# Altium footprint library shared_PcbLib.PcbLib: 11 footprints
Each footprint in its own frame and in the unit in brackets; x right, y up, seen from the top. Pads: shape width x height; smd on the part's side, far side on the other; paste and mask are expansions set on the pad; w line width, h text height; cw(c..) or ccw(c..) is an arc to the next point about the centre after c.
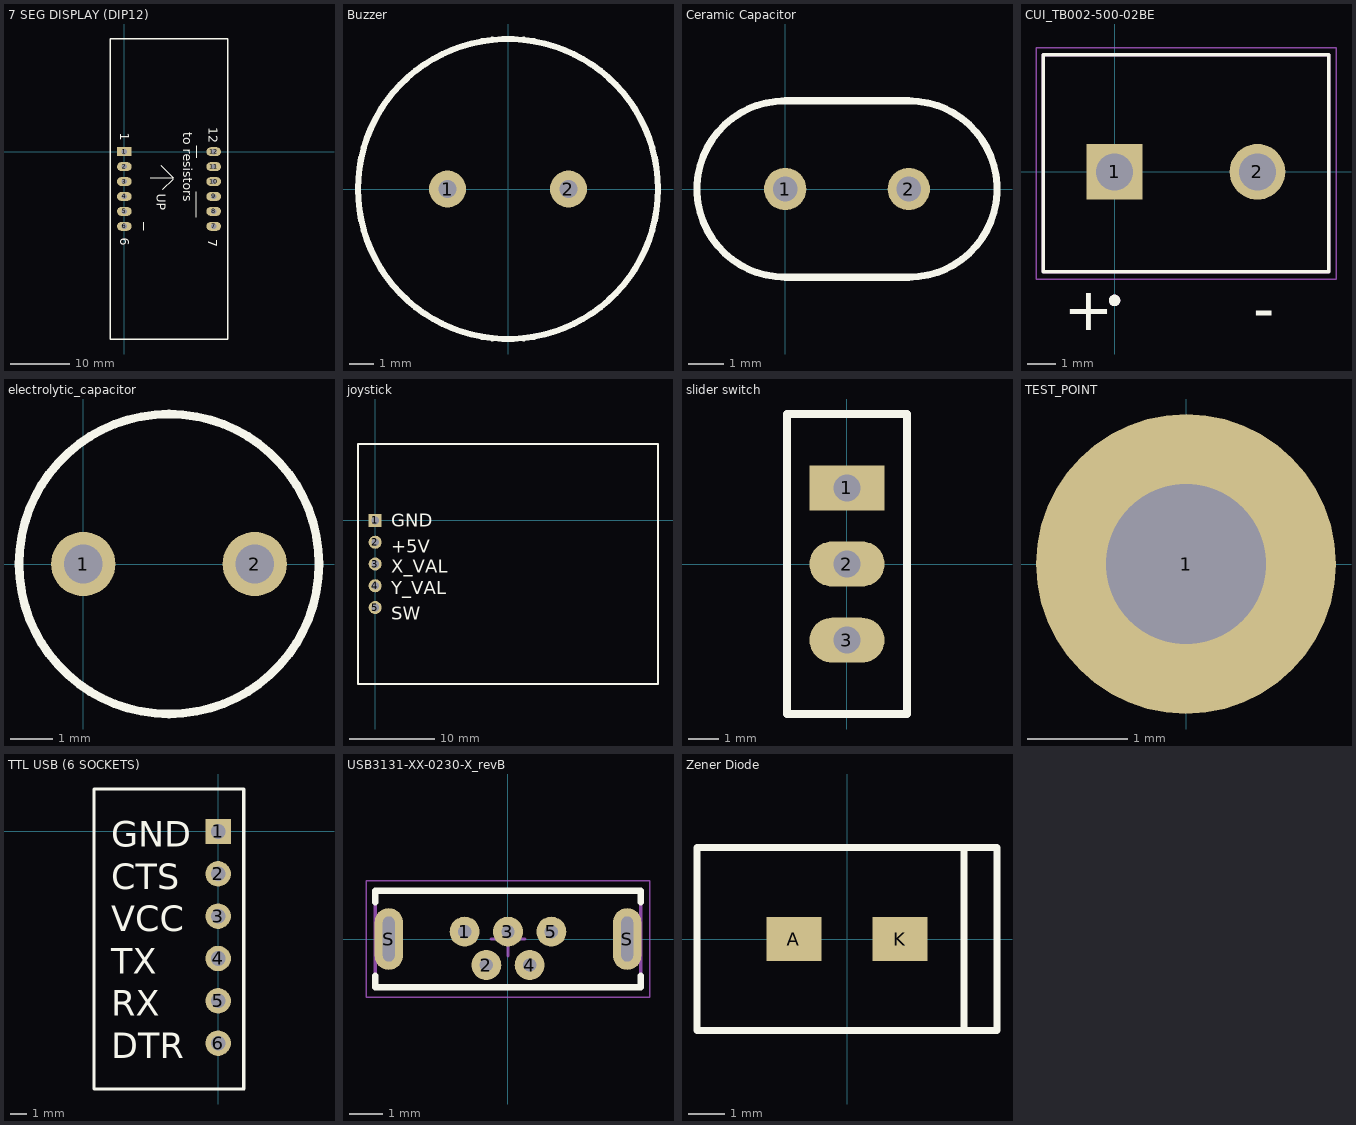
[diagram p0: the footprints below, top view; thin cyan lines are the x and y axes]

## 7 SEG DISPLAY (DIP12) [mm]
pads (12):
  rect 2.5x1.5 hole 0.9: 1(0,0)
  oval 2.5x1.5 hole 0.9: 2(0,-2.54) 3(0,-5.08) 4(0,-7.62) 5(0,-10.16) 6(0,-12.7) 7(15.2,-12.7) 8(15.2,-10.16) 9(15.2,-7.62) 10(15.2,-5.08) 11(15.2,-2.54) 12(15.2,0)
Top Overlay:
  lines w0.2: 3.325,-13.375 3.325,-12 ; 4.375,-4.475 8.3,-4.45 ; 6.175,-2.325 8.3,-4.45 ; 6.525,-6.425 8.3,-4.65 8.3,-4.45 ; 12.225,-11.175 12.225,-6.85 ; 12.35,-1.05 12.35,1
  lines w0.254: -2.4,-31.85 17.6,-31.85 17.6,19.15 -2.4,19.15 -2.4,-31.85
  text "UP" at 5.554,-7.179 h1.52
  text "to resistors" at 10.004,3.271 h1.52
  text "1" at -0.671,3.221 h1.52
  text "12" at 14.379,4.171 h1.52
  text "6" at -0.671,-14.629 h1.52
  text "7" at 14.254,-14.904 h1.52

## Buzzer [mil]
pads (2):
  round 60 hole 30: 1(-98.43,0) 2(98.43,0)
Top Overlay:
  circle w10: c0,0 r244.09

## Ceramic Capacitor [mm]
pads (2):
  round 1.2 hole 0.7: 1(0,0) 2(3.5,0)
Top Overlay:
  lines w0.2: 0,-2.5 cw(c0,0) 0,2.5 3.5,2.5 cw(c3.5,0) 3.5,-2.5 0,-2.5

## CUI_TB002-500-02BE [mm]
pads (2):
  rect 1.95x1.95 / inner round 1.95 / far side rect 1.95x1.95 hole 1.3: 1(0,0)
  round 1.95 hole 1.3: 2(5,0)
Top Overlay:
  circle w0.2: c0,-4.5 r0.1
  lines w0.127: -2.5,-3.5 -2.5,4.1 7.5,4.1 7.5,-3.5 -2.5,-3.5
  text "-" at 4.854,-5.533 h1.52
  text "+" at -1.771,-5.55 h1.52
Mechanical 13:
  circle w0.2: c0,-4.5 r0.1
  lines w0.127: -2.5,-3.5 -2.5,4.1 7.5,4.1 7.5,-3.5 -2.5,-3.5
Mechanical 15:
  lines w0.05: -2.75,-3.75 7.75,-3.75 7.75,4.35 -2.75,4.35 -2.75,-3.75

## electrolytic_capacitor [mm]
pads (2):
  round 1.5 hole 0.9: 1(0,0) 2(4,0)
Top Overlay:
  circle w0.2: c2,0 r3.5

## joystick [mil]
pads (5):
  rect 60x60 hole 35.43: 1(0,0)
  round 60 hole 35.43: 2(0,-100) 3(0,-200) 4(0,-300) 5(0,-400)
Top Overlay:
  lines w10: -78.74,-751.18 -78.74,351.18 1299.21,351.18 1299.21,-751.18 -78.74,-751.18
  text "SW" at 73.98,-456.54 h60
  text "Y_VAL" at 73.98,-338.27 h60
  text "X_VAL" at 73.98,-240.83 h60
  text "+5V" at 73.98,-147.48 h60
  text "GND" at 73.98,-29.37 h60

## slider switch [mm]
pads (3):
  rect 2.5x1.5 hole 0.9: 1(0,2.54)
  oval 2.5x1.5 hole 0.9: 2(0,0) 3(0,-2.54)
Top Overlay:
  lines w0.254: -2,-5 2,-5 2,5 -2,5 -2,-5

## TEST_POINT [mm]
pads (1):
  round 3 hole 1.6: 1(0,0)

## TTL USB (6 SOCKETS) [mil]
pads (6):
  rect 60x60 hole 35: 1(0,0)
  round 60 hole 35: 2(0,-100) 3(0,-200) 4(0,-300) 5(0,-400) 6(0,-500)
Top Overlay:
  lines w7.87: 60.04,100.39 60.04,-562.01 60.04,-608.27 ; 61.02,100.39 -293.31,100.39 -293.31,-608.27 53.15,-608.27 60.04,-608.27 ; 60.04,-608.27 60.04,-608.27
  text "GND" at -252.8,-36.26 h60
  text "CTS" at -252.8,-136.06 h60
  text "VCC" at -252.8,-235.87 h60
  text "TX" at -252.8,-335.67 h60
  text "RX" at -252.8,-435.47 h60
  text "DTR" at -252.8,-535.28 h60

## USB3131-XX-0230-X_revB [mm] "Micro USB Receptacle, Type B, Through-Hole, Vertical, with 2.3mm Shell Stakes"
height 5.6
pads (7):
  round 0.9 hole 0.4: 1(-1.3,0.22) 2(-0.65,-0.78) 3(0,0.22) 4(0.65,-0.78) 5(1.3,0.22)
  oval 0.85x1.85 hole 0.35 slot 1.35 at 90 deg: S(-3.575,0) S(3.575,0)
Top Overlay:
  lines w0.2: -3.98,-1.1 -3.98,-1.45 3.98,-1.45 3.98,-1.1 ; -3.98,1.1 -3.98,1.45 3.98,1.45 3.98,1.1
Mechanical 13:
  lines w0.1: -3.98,-1.45 -3.98,1.45 3.98,1.45 3.98,-1.45 -3.98,-1.45
Mechanical 15:
  lines w0.05: -4.25,-1.75 -4.25,1.75 4.25,1.75 4.25,-1.75 -4.25,-1.75
  lines w0.1: -0.5,0 0.5,0 ; 0,-0.5 0,0.5
3D body "usb3131-30-0230-a_revb.step": height 5.64, standoff -2.27, extent -3.965,-1.466 3.98,1.466

## Zener Diode [mm]
pads (2):
  rect 1.5x1.2 smd: A(-1.45,0) K(1.45,0)
Top Overlay:
  lines w0.2: 3.2,-2.425 3.2,2.5 ; -4.1,-2.5 4.1,-2.5 4.1,2.5 -4.1,2.5 -4.1,0 -4.1,-2.5